# EAGLE library part SFV28R-2STE1HLF (library FPC FFC Connectors)
CONN FFC TOP 28POS 0.50MM R/A Manufacturer's datasheet <https://cdn.amphenol-icc.com/media/wysiwyg/files/drawing/10112793.pdf>
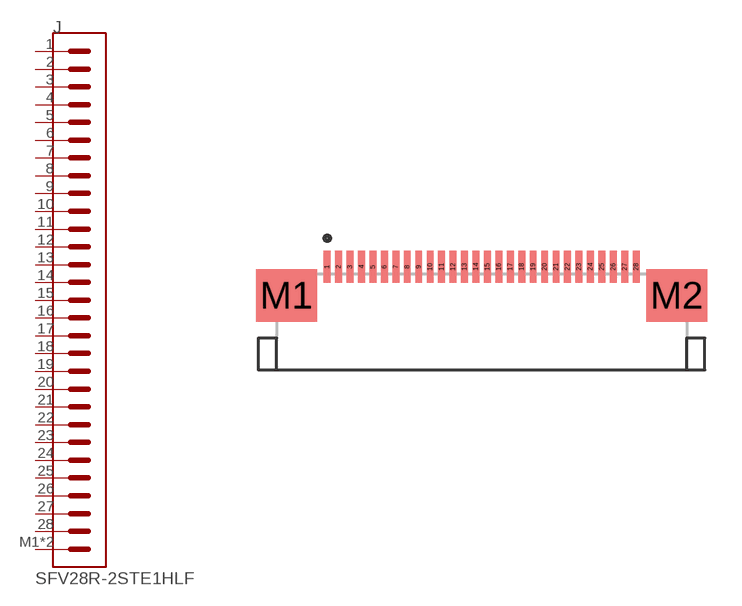
[diagram p7: symbol with the pads of SFV28R-2STE1HLF; footprint SFV28R-2STE1HLF]

Designator prefix J

## SFV28R-2STE1HLF (CREATED_BY: PCBLayout.com; DIGIKEY_PARTNO: 609-4325-2-ND; MANUFACTURER: Amphenol ICC (FCI); MPN: SFV28R-2STE1HLF)  [SFV28R-2STE1HLF]
1  1  pas
2  2  pas
3  3  pas
4  4  pas
5  5  pas
6  6  pas
7  7  pas
8  8  pas
9  9  pas
10  10  pas
11  11  pas
12  12  pas
13  13  pas
14  14  pas
15  15  pas
16  16  pas
17  17  pas
18  18  pas
19  19  pas
20  20  pas
21  21  pas
22  22  pas
23  23  pas
24  24  pas
25  25  pas
26  26  pas
27  27  pas
28  28  pas
M1  SHIELD  pwr
M2  SHIELD  pwr

## Footprint SFV28R-2STE1HLF (pad centres in mm)
smd 0.3 x 1.4: 1 -6.75,1.27; 2 -6.25,1.27; 3 -5.75,1.27; 4 -5.25,1.27; 5 -4.75,1.27; 6 -4.25,1.27; 7 -3.75,1.27; 8 -3.25,1.27; 9 -2.75,1.27; 10 -2.25,1.27; 11 -1.75,1.27; 12 -1.25,1.27; 13 -0.75,1.27; 14 -0.25,1.27; 15 0.25,1.27; 16 0.75,1.27; 17 1.25,1.27; 18 1.75,1.27; 19 2.25,1.27; 20 2.75,1.27; 21 3.25,1.27; 22 3.75,1.27; 23 4.25,1.27; 24 4.75,1.27; 25 5.25,1.27; 26 5.75,1.27; 27 6.25,1.27; 28 6.75,1.27
smd 2.65 x 2.3: M1 -8.525,0.02; M2 8.525,0.02